# Altium schematic symbol library BRT_baza.SchLib: 317 symbols (part 4 of 4)
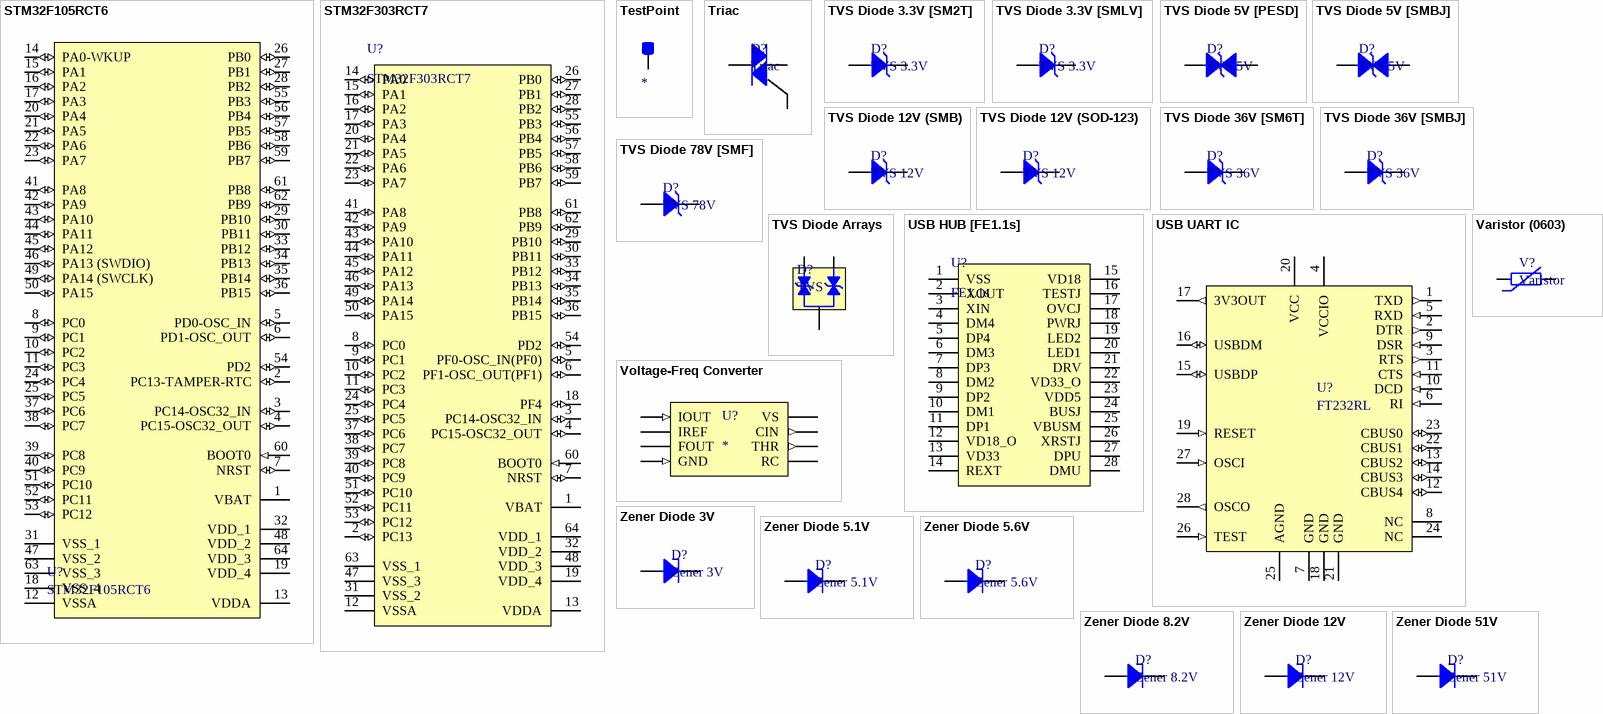
[diagram p11: symbols STM32F105RCT6 to Zener Diode 51V]

## Zener Diode 3V
designator D?, comment Zener 3V
500mW; Part Number: MMSZ5225B; Manufacturer: Yangzhou Yangjie Electronic Technology; Type: Diode; ComponentLink1Description: Chip&Dip; ComponentLink1URL: https://www.chipdip.ru/product/mmsz5225b; ComponentLink2Description: DataSheet; ComponentLink2URL: https://static.chipdip.ru/lib/152/DOC001152772.pdf
footprint sod-123
pins: 1, 2

## Zener Diode 5.1V
designator D?, comment Zener 5.1V
300mW; Part Number: BZX384-C5V1,115; Manufacturer: Nexperia; Type: Diode; ComponentLink1Description: Chip&Dip; ComponentLink1URL: https://www.chipdip.ru/product/bzx384-c5v1; ComponentLink2Description: DataSheet; ComponentLink2URL: https://static.chipdip.ru/lib/164/DOC001164636.pdf
footprint sod-323
pins: 1, 2

## Zener Diode 5.6V
designator D?, comment Zener 5.6V
300mW; Part Number: BZX384-C5V6,115; Manufacturer: Nexperia; Type: Diode; ComponentLink1Description: Chip&Dip; ComponentLink1URL: https://www.chipdip.ru/product/bzx384-c5v6.115; ComponentLink2Description: DataSheet; ComponentLink2URL: http://www.farnell.com/datasheets/2174101.pdf
footprint sod-323
pins: 1, 2

## Zener Diode 8.2V
designator D?, comment Zener 8.2V
500mW; Part Number: MMSZ8V2T1G; Manufacturer: ON Semiconductor; Type: Diode; ComponentLink1Description: Chip&Dip; ComponentLink1URL: https://www.chipdip.ru/product/mmsz8v2t1g; ComponentLink2Description: DataSheet; ComponentLink2URL: https://static.chipdip.ru/lib/776/DOC002776192.pdf
footprint sod-123
pins: 1, 2

## Zener Diode 12V
designator D?, comment Zener 12V
300mW; Part Number: BZX384-C12,115; Manufacturer: NXP Semiconductor; Type: Diode; ComponentLink1Description: Chip&Dip; ComponentLink1URL: https://www.chipdip.ru/product/bzx384-c12.115; ComponentLink2Description: DataSheet; ComponentLink2URL: https://static.chipdip.ru/lib/583/DOC001583013.pdf
footprint sod-323
pins: 1, 2

## Zener Diode 51V
designator D?, comment Zener 51V
1W; Part Number: KC551A1; Manufacturer: Russia; Type: Diode; ComponentLink1Description: Chip&Dip; ComponentLink1URL: https://www.chipdip.ru/product/ks551a1
footprint KD-3A
pins: 1, 2